# EAGLE library part 5700100132F (library 473)
LED Circuit Board Indicator 3 High Green (x 1), Red (x 1), Yellow (x 1) Diffused 2.2V Green, 2V Red, 2.1V Yellow 25mA Green, 30mA Red, 30mA Yellow Through Hole, Right Angle
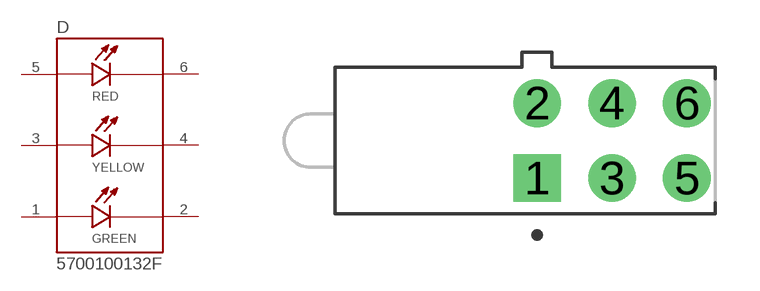
[diagram p6: symbol with the pads of LED_5700100132F; footprint LED_5700100132F]

Designator prefix D

## 5700100132F (DESCRIPTION: LED Circuit Board Indicator LED Circuit Board Indicator 3 High Green (x 1), Red (x 1), Yellow (x 1) Diffused 2.2V Green, 2V Red, 2.1V Yellow 25mA Green, 30mA Red, 30mA Yellow Round with Domed Top 2.00mm Dia Through Hole, Right Angle; DIGI-KEY_PART_NUMBER: 350-1809-ND; MF: Dialight; MP: 5700100132F; PACKAGE: None; PURCHASE-URL: https://pricing.snapeda.com/search/part/5700100132F/?ref=eda)  [LED_5700100132F]
1  A_GREEN  pas
2  C_GREEN  pas
3  A_YELLOW  pas
4  C_YELLOW  pas
5  A_RED  pas
6  C_RED  pas

## Footprint LED_5700100132F (pad centres in mm)
drill 1.08 square: 1 0,-1.27
drill 1.08: 2 0,1.27; 3 2.54,-1.27; 4 2.54,1.27; 5 5.08,-1.27; 6 5.08,1.27